# Altium schematic symbol library TVS_Diode_Bidirectional.SchLib: 1 symbol
Pins are listed as number, name and electrical type; pins without a type are passive.

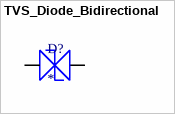
[diagram p0: symbol TVS_Diode_Bidirectional]

## TVS_Diode_Bidirectional
designator D?
pins: A, C 2